# EAGLE library part EL2045CN (library Intersil_By_element14_Batch_1)
Operational Amplifier
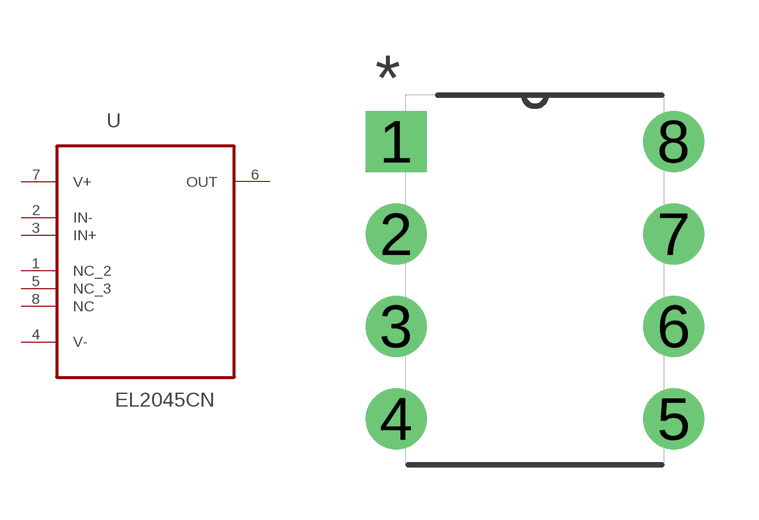
[diagram p51: symbol with the pads of DIP254P762X533-8; footprint DIP254P762X533-8]

Designator prefix U

## EL2045CN (MPN: EL2045CN; OC_FARNELL: 1651855; OC_NEWARK: 31H9396; PACKAGE: PDIP-8; SUPPLIER: INTERSIL)  [DIP254P762X533-8]
1  NC_2  nc
2  IN-  in
3  IN+  in
4  V-  pwr
5  NC_3  nc
6  OUT  out
7  V+  pwr
8  NC  nc

## Footprint DIP254P762X533-8 (pad centres in mm)
drill 1.118 square: 1 -7.62,7.62
drill 1.118: 2 -7.62,5.08; 3 -7.62,2.54; 4 -7.62,0; 5 0,0; 6 0,2.54; 7 0,5.08; 8 0,7.62